# Altium footprint library WL-SUTW.PcbLib: 1 footprints
Each footprint in its own frame and in the unit in brackets; x right, y up, seen from the top. Pads: shape width x height; smd on the part's side, far side on the other; paste and mask are expansions set on the pad; w line width, h text height; cw(c..) or ccw(c..) is an arc to the next point about the centre after c.
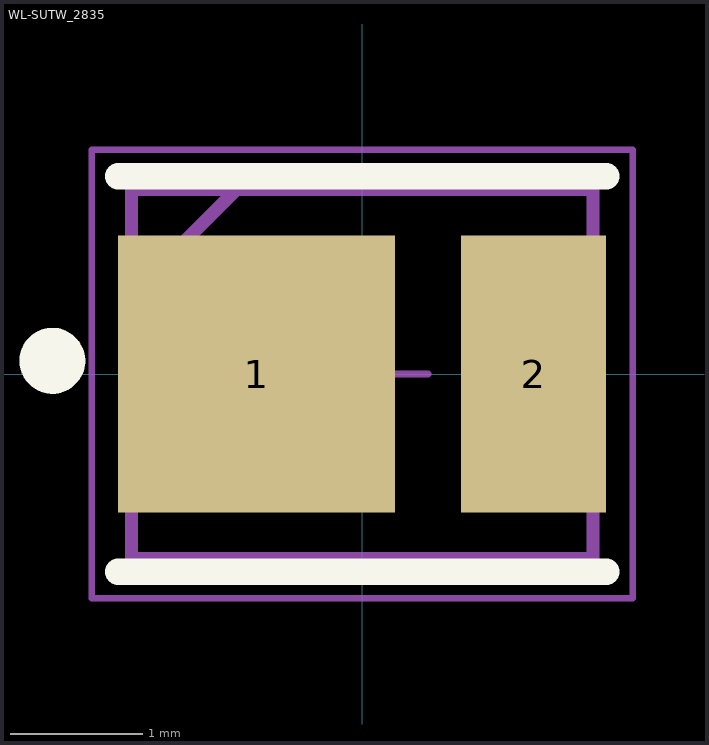
[diagram p0: the footprint, top view; thin cyan lines are the x and y axes]

## WL-SUTW_2835 [mm] "SMT Ultraviolet TopLED Waterclear, body 3.50 x 2.80 mm"
height 0.7
pads (2):
  rect 2.1x2.1 smd: 1(-0.8,0)
  rect 1.1x2.1 smd: 2(1.3,0)
Top Overlay:
  circle w0.25: c-2.35,0.1 r0.125
  lines w0.2: -1.85,-1.5 1.85,-1.5 ; -1.85,1.5 1.85,1.5
Top Designator:
  text ".Designator" at -4.998,-0.333 h1
Top Component Outline:
  lines w0.1: -1.75,0.6 -0.95,1.4 ; -1.75,-1.4 1.75,-1.4 1.75,1.4 -1.75,1.4 -1.75,-1.4
Top Courtyard:
  lines w0.05: -2.05,-1.7 -2.05,1.7 2.05,1.7 2.05,-1.7 -2.05,-1.7
Top Component Center:
  lines w0.05: -0.5,0 0.5,0 ; 0,-0.5 0,0.5
3D body "153283xx7A212.stp": height 0.7, standoff 0, extent -1.75,-1.4 1.75,1.4